# Altium schematic symbol library katschematic.SchLib: 6 symbols
Pins are listed as number, name and electrical type; pins without a type are passive.

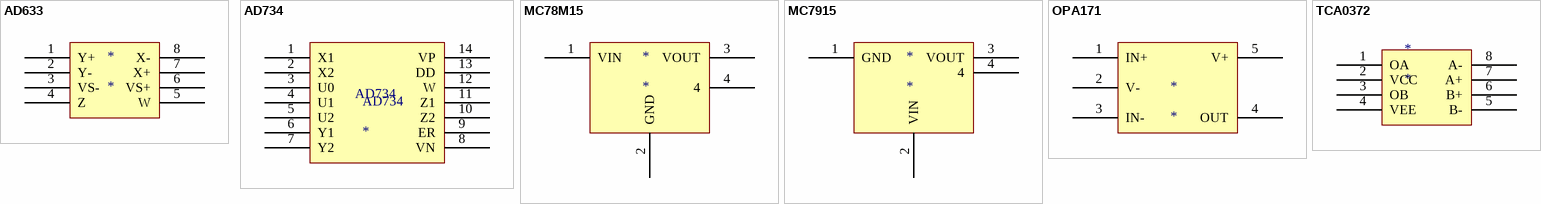
[diagram p0: symbols AD633 to TCA0372]

## AD633
designator *
pins: 1 Y+, 2 Y-, 3 VS-, 4 Z, 5 W, 6 VS+, 7 X+, 8 X-

## AD734
designator AD734  component name: AD734
footprint D14 (DIP, Side-Brazed (Hermetic); 14 Leads; Row Spacing 7.62 mm; Pitch 2.54 mm)
pins: 1 X1, 2 X2, 3 U0, 4 U1, 5 U2, 6 Y1, 7 Y2, 8 VN, 9 ER, 10 Z2, 11 Z1, 12 W, 13 DD, 14 VP

## MC78M15
designator *
pins: 1 VIN, 2 GND, 3 VOUT, 4

## MC7915
designator *
pins: 1 GND, 2 VIN, 3 VOUT, 4

## OPA171
designator *
footprint S5 (SOT-23/SC-74A; 5 Leads; Body 3.1 x 3 mm, inc. leads (LxW max))
pins: 1 IN+, 2 V-, 3 IN-, 4 OUT, 5 V+

## TCA0372
designator *
footprint P008D (DIP; 8 Leads; Row Spacing 7.62 mm; Pitch 2.54 mm)
pins: 1 OA, 2 VCC, 3 OB, 4 VEE, 5 B-, 6 B+, 7 A+, 8 A-